# EAGLE library part SN74LVC1G3157DBVR (library Fugu_LSI)
Double-Throw Analog Switch
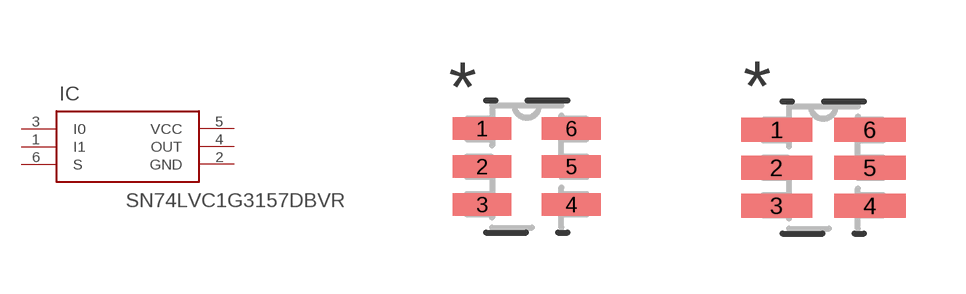
[diagram p37: symbol with the pads of DBV6; footprints DBV6, DBV6-M]

Designator prefix IC

## SN74LVC1G3157DBVR (MANUFACTURER_PART_NUMBER: SN74LVC1G3157DBVR; VENDOR: Texas Instruments)  [DBV6]
1  I1  in
2  GND  pwr
3  I0  in
4  OUT  in
5  VCC  pwr
6  S  in

## SN74LVC1G3157DBVRDBV6-M (MANUFACTURER_PART_NUMBER: SN74LVC1G3157DBVR; VENDOR: Texas Instruments)  [DBV6-M]
Pads as for DBV6

## SN74LVC1G3157DBVRDBV6-L (MANUFACTURER_PART_NUMBER: SN74LVC1G3157DBVR; VENDOR: Texas Instruments)  [DBV6-L]
Pads as for DBV6

## Footprint DBV6 (pad centres in mm)
smd 1.473 x 0.559: 1 -1.118,0.95; 2 -1.118,0; 3 -1.118,-0.95; 4 1.118,-0.95; 5 1.118,0; 6 1.118,0.95

## Footprint DBV6-M (pad centres in mm)
smd 1.778 x 0.61: 1 -1.168,0.95; 2 -1.168,0; 3 -1.168,-0.95; 4 1.168,-0.95; 5 1.168,0; 6 1.168,0.95

## Footprint DBV6-L (pad centres in mm)
smd 1.168 x 0.508: 1 -1.067,0.95; 2 -1.067,0; 3 -1.067,-0.95; 4 1.067,-0.95; 5 1.067,0; 6 1.067,0.95